# EAGLE library part DTM13-12PA-12PB (library manualControl)
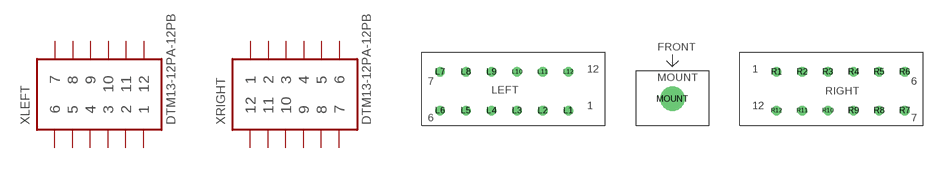
[diagram p8: symbol with the pads of DTM13-12P-12P; footprint DTM13-12P-12P]

Designator prefix X; gates LEFT=DTM13-12PA RIGHT=DTM13-12PB

## DTM13-12PA-12PB  [DTM13-12P-12P]
L1  LEFT:1  pas
L2  LEFT:2  pas
L3  LEFT:3  pas
L4  LEFT:4  pas
L5  LEFT:5  pas
L6  LEFT:6  pas
L7  LEFT:7  pas
L8  LEFT:8  pas
L9  LEFT:9  pas
L10  LEFT:10  pas
L11  LEFT:11  pas
L12  LEFT:12  pas
R1  RIGHT:1  pas
R2  RIGHT:2  pas
R3  RIGHT:3  pas
R4  RIGHT:4  pas
R5  RIGHT:5  pas
R6  RIGHT:6  pas
R7  RIGHT:7  pas
R8  RIGHT:8  pas
R9  RIGHT:9  pas
R10  RIGHT:10  pas
R11  RIGHT:11  pas
R12  RIGHT:12  pas

## Footprint DTM13-12P-12P (pad centres in mm)
drill 1.04: L1 -17.02,-3.175; L2 -21.21,-3.175; L3 -25.4,-3.175; L4 -29.59,-3.175; L5 -33.78,-3.175; L6 -37.97,-3.175; L7 -37.97,3.175; L8 -33.78,3.175; L9 -29.59,3.175; L10 -25.4,3.175; L11 -21.21,3.175; L12 -17.02,3.175; R1 17.02,3.175; R2 21.21,3.175; R3 25.4,3.175; R4 29.59,3.175; R5 33.78,3.175; R6 37.97,3.175; R7 37.97,-3.175; R8 33.78,-3.175; R9 29.59,-3.175; R10 25.4,-3.175; R11 21.21,-3.175; R12 17.02,-3.175
drill 3: MOUNT 0,-1.215